# Altium schematic symbol library SCH - MCU - NUVOTON - NUVOTON M031FB0AE.SchLib: 1 symbol
Pins are listed as number, name and electrical type; pins without a type are passive.

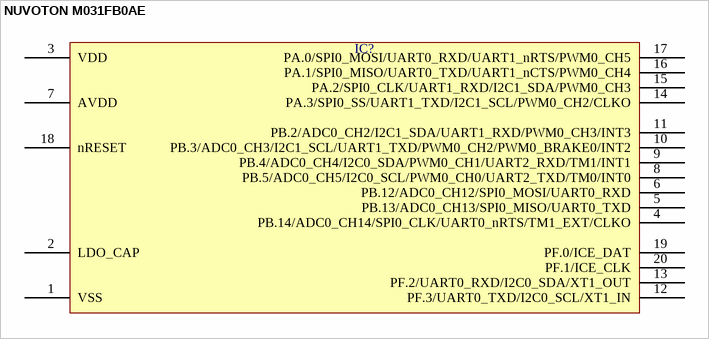
[diagram p0: symbol NUVOTON M031FB0AE]

## NUVOTON M031FB0AE
designator IC?  (value not drawn)
pins: 1 VSS, 2 LDO_CAP, 3 VDD, 4 PB.14/ADC0_CH14/SPI0_CLK/UART0_nRTS/TM1_EXT/CLKO, 5 PB.13/ADC0_CH13/SPI0_MISO/UART0_TXD, 6 PB.12/ADC0_CH12/SPI0_MOSI/UART0_RXD, 7 AVDD, 8 PB.5/ADC0_CH5/I2C0_SCL/PWM0_CH0/UART2_TXD/TM0/INT0, 9 PB.4/ADC0_CH4/I2C0_SDA/PWM0_CH1/UART2_RXD/TM1/INT1, 10 PB.3/ADC0_CH3/I2C1_SCL/UART1_TXD/PWM0_CH2/PWM0_BRAKE0/INT2, 11 PB.2/ADC0_CH2/I2C1_SDA/UART1_RXD/PWM0_CH3/INT3, 12 PF.3/UART0_TXD/I2C0_SCL/XT1_IN, 13 PF.2/UART0_RXD/I2C0_SDA/XT1_OUT, 14 PA.3/SPI0_SS/UART1_TXD/I2C1_SCL/PWM0_CH2/CLKO, 15 PA.2/SPI0_CLK/UART1_RXD/I2C1_SDA/PWM0_CH3, 16 PA.1/SPI0_MISO/UART0_TXD/UART1_nCTS/PWM0_CH4, 17 PA.0/SPI0_MOSI/UART0_RXD/UART1_nRTS/PWM0_CH5, 18 nRESET, 19 PF.0/ICE_DAT, 20 PF.1/ICE_CLK